# Altium footprint library LSM6DSO.PcbLib: 1 footprints
Each footprint in its own frame and in the unit in brackets; x right, y up, seen from the top. Pads: shape width x height; smd on the part's side, far side on the other; paste and mask are expansions set on the pad; w line width, h text height; cw(c..) or ccw(c..) is an arc to the next point about the centre after c.
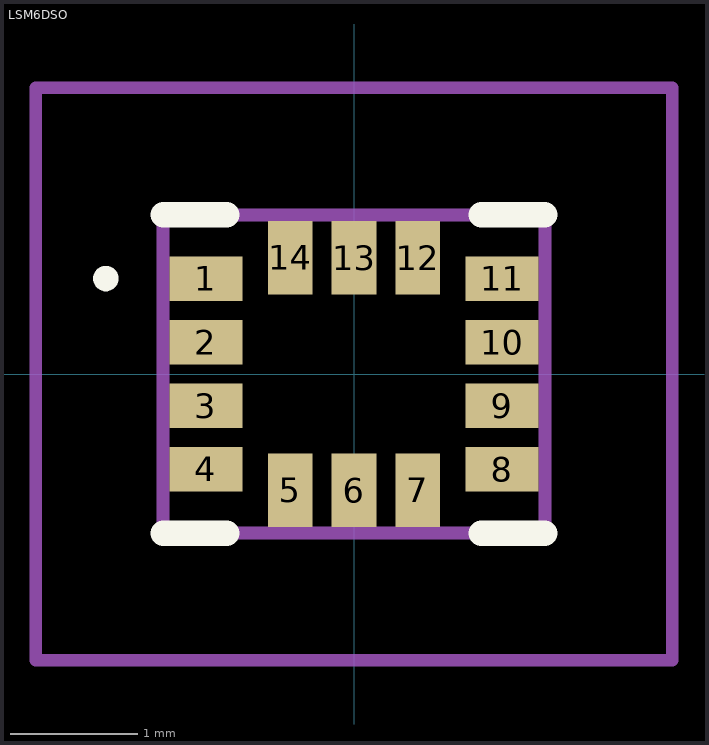
[diagram p0: the footprint, top view; thin cyan lines are the x and y axes]

## LSM6DSO [mm]
pads (14):
  rect 0.575x0.35 smd: 1(-1.163,0.75) 2(-1.163,0.25) 3(-1.163,-0.25) 4(-1.163,-0.75) 8(1.163,-0.75) 9(1.163,-0.25) 10(1.163,0.25) 11(1.163,0.75)
  rect 0.35x0.575 smd: 5(-0.5,-0.913) 6(0,-0.913) 7(0.5,-0.913) 12(0.5,0.913) 13(0,0.913) 14(-0.5,0.913)
Top Overlay:
  lines w0.1: -2,0.75 cw(c-1.95,0.75) -1.9,0.75 ; -2,0.75 -2,0.75 ; -2,0.75 ccw(c-1.95,0.75) -1.9,0.75 ; -1.9,0.75 -1.9,0.75
  lines w0.2: -1.5,-1.25 -1,-1.25 ; -1.5,1.25 -1,1.25 ; 1,-1.25 1.5,-1.25 ; 1,1.25 1.5,1.25
Mechanical 15:
  lines w0.1: -1.5,-1.25 1.5,-1.25 1.5,1.25 -1.5,1.25 -1.5,-1.25
Mechanical 20:
  lines w0.1: -2.5,-2.25 2.5,-2.25 2.5,2.25 -2.5,2.25 -2.5,-2.25